# Altium schematic symbol library Schlib1.SchLib: 79 symbols (part 3 of 3)
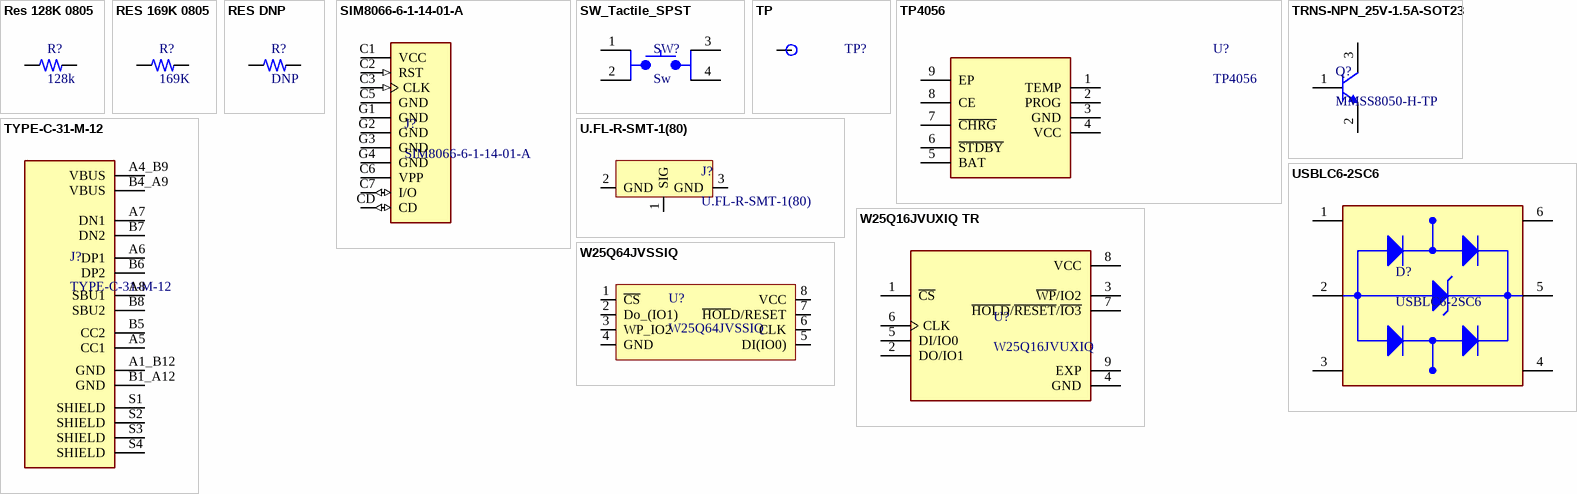
[diagram p4: symbols Res 128K 0805 to W25Q64JVSSIQ]

## U.FL-R-SMT-1(80)
designator J?
RF COAX Connector, U.FL JACK, PCB, 50 OHM; Co; Connector Type: U.FL Coaxial; Body Style: Straight; Manufacturer: Hirose; Frequency: 8GHz; Number of Contacts: 1NUMBER; Supplier: Avnet; Supplier Part Number: U.FL-R-SMT-1(80); Manufacturer Part Number: U.FL-R-SMT-1(80); RoHS: Yes; Category: RF / Coaxial Connectors; Stock: 10; Pricing: 10000=0,62403 (USD); Contact Plating: 157,159ConductorMaterial; Orientation: 5491OrientationType; Height: 1.45mm; Lead Free: 5697LeadFree; ComponentLink1URL: http://www.mouser.com/ds/2/185/U.FL_catalog-939761.pdf?src-supplier=Mouser; ComponentLink1Description: http://www.mouser.com/ds/2/185/U.FL_catalog-939761.pdf?src-supplier=Mouser; ComponentLink2URL: https://www.hirose.com/product/en/download_file/key_name/U.FL-R-SMT-1%2880%29/category/Specification%20Sheet/doc_file_id/37638/?file_category_id=9&item_id=03310472280&is_series=&src-supplier=Digikey; ComponentLink2Description: https://www.hirose.com/product/en/download_file/key_name/U.FL-R-SMT-1%2880%29/category/Specification%20Sheet/doc_file_id/37638/?file_category_id=9&item_id=03310472280&is_series=&src-supplier=Digikey; ComponentLink3URL: https://datasheet.octopart.com/U.FL-R-SMT-1%2880%29-Hirose-datasheet-137256329.pdf?src-supplier=Future+Electronics; ComponentLink3Description: https://datasheet.octopart.com/U.FL-R-SMT-1%2880%29-Hirose-datasheet-137256329.pdf?src-supplier=Future+Electronics; ComponentLink4URL: https://datasheet.octopart.com/U.FL-R-SMT-1%2880%29-Hirose-datasheet-151510633.pdf?src-supplier=TME; ComponentLink4Description: https://datasheet.octopart.com/U.FL-R-SMT-1%2880%29-Hirose-datasheet-151510633.pdf?src-supplier=TME
footprint UFL
pins: 1 SIG, 2 GND, 3 GND

## USBLC6-2SC6
designator D?
ESD Suppressor Diode Array Dual Uni-Dir 15kV Air Gap/15kV Contact Disc 6-Pin SOT-23 T/R; Manufacturer: STMicroelectronics; Direction: Unidirectional,Bidirectional; Value: 3.5pF; Operating Supply Voltage: 1.1V; Number of Channels: 2; Breakdown Voltage: 6V; Clamping Voltage: 17V; Reverse Standoff Voltage: 5.25V; Power Line Protection: Yes; Test Current: 1mA; Max Reverse Leakage Current: 150nA; Peak Pulse Current: 5A; Data Rate: 480Mbps; Number of Elements: 1; Working Voltage: 5V; Supplier: Arrow Electronics; Supplier Part Number: USBLC6-2SC6; Manufacturer Part Number: USBLC6-2SC6; RoHS: Yes; Category: TVS Diodes; Stock: 222000; Pricing: 3000=0,0796, 6000=0,0796, 9000=0,0796 (USD); Mounting Technology: Surface Mount; Case/Package: SOT-23; Pins: 6; Min Operating Temperature: -40°C; Max Operating Temperature: 125°C; Packaging: Tape and Reel; Package Quantity: 3000; Termination: SMD/SMT; Number of Bidirectional Channels: 2; Min Breakdown Voltage: 6V; ESD Protection: Yes; Leakage Current: 150nA; Series: USB; Reverse Breakdown Voltage: 6V; Polarity: Unidirectional,Bidirectional; Max Breakdown Voltage: 6V; Clamping Voltage-Max: 17V; Max Repetitive Reverse Voltage (Vrrm): 5.25V; Length: 3.05mm; Width: 1.75mm; Height: 1.3mm; Depth: 1.75mm; Radiation Hardening: No; Lead Free: Lead Free; Reach SVHC Compliant: No; RoHS Compliant: Yes; ComponentLink1URL: https://datasheet.ciiva.com/1268/1690354-1268384.pdf?src-supplier=Element14; ComponentLink1Description: https://datasheet.ciiva.com/1268/1690354-1268384.pdf?src-supplier=Element14; ComponentLink2URL: https://datasheet.ciiva.com/4508/cd00050750-113117-4508433.pdf?src-supplier=Mouser; ComponentLink2Description: https://datasheet.ciiva.com/4508/cd00050750-113117-4508433.pdf?src-supplier=Mouser; ComponentLink3URL: https://datasheet.ciiva.com/15143/getdatasheetpartid-148465-15143789.pdf?src-supplier=Verical; ComponentLink3Description: https://datasheet.ciiva.com/15143/getdatasheetpartid-148465-15143789.pdf?src-supplier=Verical; ComponentLink4URL: https://datasheet.ciiva.com/16200/cd00050750-16200026.pdf?src-supplier=Future+Electronics; ComponentLink4Description: https://datasheet.ciiva.com/16200/cd00050750-16200026.pdf?src-supplier=Future+Electronics; ComponentLink5URL: https://datasheet.ciiva.com/41444/001184109-da-01-en-ic-esd-protecti-usblc6-2sc6-sot-23-6-stm-41444156.pdf?src-supplier=Conrad; ComponentLink5Description: https://datasheet.ciiva.com/41444/001184109-da-01-en-ic-esd-protecti-usblc6-2sc6-sot-23-6-stm-41444156.pdf?src-supplier=Conrad
footprint SOT-23-6
pins: 1 I/O1_IN, 2 GND (power), 3 I/O2_IN, 4 I/O2_OUT, 5 VBUS (power), 6 I/O1_OUT

## W25Q16JVUXIQ TR
designator U?, comment W25Q16JVUXIQ
NOR Flash Serial (SPI, Dual SPI, Quad SPI) 3V/3.3V 16M-bit 2M x 8 6ns 8-Pin USON EP T/R; Manufacturer: Winbond; Manufacturer Part Number: W25Q16JVUXIQ TR; Supplier: Digikey; Supplier Part Number: 256-W25Q16JVUXIQTRCT-ND; RoHS: No; Category: Memory; Stock: 6291; Pricing: 1=0,51, 10=0,477, 25=0,464, 50=0,4542, 100=0,4444, 250=0,43128, 500=0,4213, 1000=0,41135 (USD)
footprint 8_USON
pins: 1 ~{CS}, 2 DO/IO1, 3 ~{WP}/IO2, 4 GND, 5 DI/IO0, 6 CLK, 7 ~{HOLD}/~{RESET}/~{IO3}, 8 VCC, 9 EXP

## W25Q64JVSSIQ
designator U?
NOR Flash Serial (SPI, Dual SPI, Quad SPI) 3V/3.3V 64M-bit 8M x 8 6ns 8-Pin SOIC T/R/Tray/Tube; Manufacturer: Winbond; Memory Format: Non-Volatile,FLASH; Frequency: 133MHz; Memory Size: 64Mb; Supplier: Digikey; Supplier Part Number: W25Q64JVSSIQ-ND; Manufacturer Part Number: W25Q64JVSSIQ; RoHS: Yes; Category: Flash; Stock: 36089; Pricing: 1=0,94, 10=0,884, 25=0,86, 90=0,82533, 180=0,80644, 270=0,79541, 540=0,77654, 1080=0,75775, 5040=0,71662 (USD); Mounting Technology: Surface Mount; Case/Package: SOIC; Pins: 8; Min Operating Temperature: -40°C; Max Operating Temperature: 85°C; Packaging: Rail/Tube; Series: SpiFlash®; Height: 2.16mm; RoHS Compliant: Yes; ComponentLink1URL: http://www.winbond.com/resource-files/w25q64jv%20revj%2003272018%20plus.pdf?src-supplier=Digikey; ComponentLink1Description: http://www.winbond.com/resource-files/w25q64jv%20revj%2003272018%20plus.pdf?src-supplier=Digikey
footprint SOIC8
pins: 1 ~{CS}, 2 Do_(IO1), 3 WP_IO2, 4 GND, 5 DI(IO0), 6 CLK, 7 ~{HOL}D/RESET, 8 VCC